# EAGLE library part 750314952 (library Wurth_Power Magnetics_WE-IBTI)
WE-IBTI Isolated Buck Transformers Characteristics Flybuck™ topology Operating Temp: -40°C to +125°C Excellent leakage inductance and interwinding capacitance performance Applications Industrial Programmable Logic Controllers (PLCs) Building automation and process control Isolated interface power: RS-422, RS-485, CAN, I2C, LAN Motor drive control, inverters and industrial automation Isolated low power drivers & regulators, smart e-meters Bias power supplies for gate drives and op-amps <https://www.we-online.com/components/media/o790826v209%20family-MID-IBTI.1673.jpg> Details see: www.we-online.com/en/components/products/WE-IBTI <www.we-online.com/catalog/WE-IBTI/?utm_source=eagle_model&utm_medium=description_link&utm_campaign=eisos_eagle> Created by Ella Wu 2024-06-07 2024 (C) Wurth Elektronik
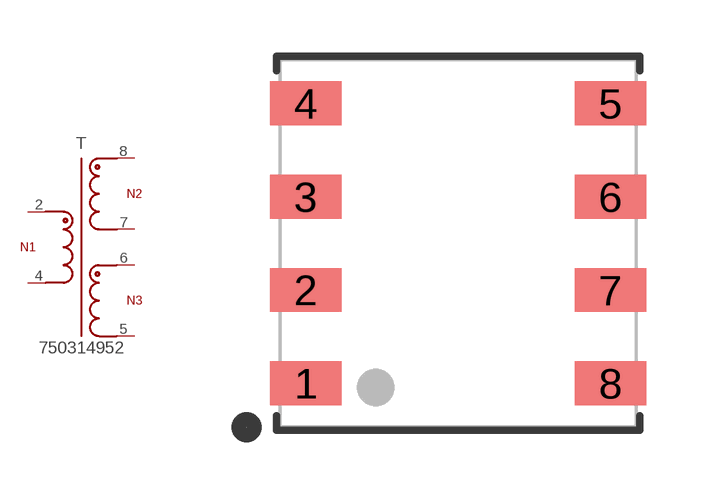
[diagram p0: symbol with the pads of WE-IBTI_EP7_L9.78W9.5H10.54; footprint WE-IBTI_EP7_L9.78W9.5H10.54]

Designator prefix T

## 750314952 (DATASHEET-URL: https://www.we-online.com/redexpert/spec/750314952?ae; FSWITCH: 100kHz; HEIGHT: 10.54mm; IOUT1: 0.15A; L: 2500uH; LENGTH: 9.78mm; MOUNT: SMT; N: 1:1.25; PART-NUMBER: 750314952; SIZE: EP7; VALUE: 750314952; VBUCK: 3.3V; VIN: 10 - 40 V (DC); VOUT1: 3.3V; VT: 2000V(AC); WIDTH: 9.5mm)  [WE-IBTI_EP7_L9.78W9.5H10.54]
2  2  pas
4  4  pas
5  5  pas
6  6  pas
7  7  pas
8  8  pas

## Footprint WE-IBTI_EP7_L9.78W9.5H10.54 (pad centres in mm)
WE-IBTI Isolated Buck Transformers Size: EP7,SMT,8pins LXWXH=9.78X9.5X10.54mm
smd 1.91 x 1.17: 1 -4.065,-3.735; 2 -4.065,-1.245; 3 -4.065,1.245; 4 -4.065,3.735; 5 4.065,3.735; 6 4.065,1.245; 7 4.065,-1.245; 8 4.065,-3.735